# Altium footprint library KF250_3.5.PcbLib: 4 footprints
Each footprint in its own frame and in the unit in brackets; x right, y up, seen from the top. Pads: shape width x height; smd on the part's side, far side on the other; paste and mask are expansions set on the pad; w line width, h text height; cw(c..) or ccw(c..) is an arc to the next point about the centre after c.
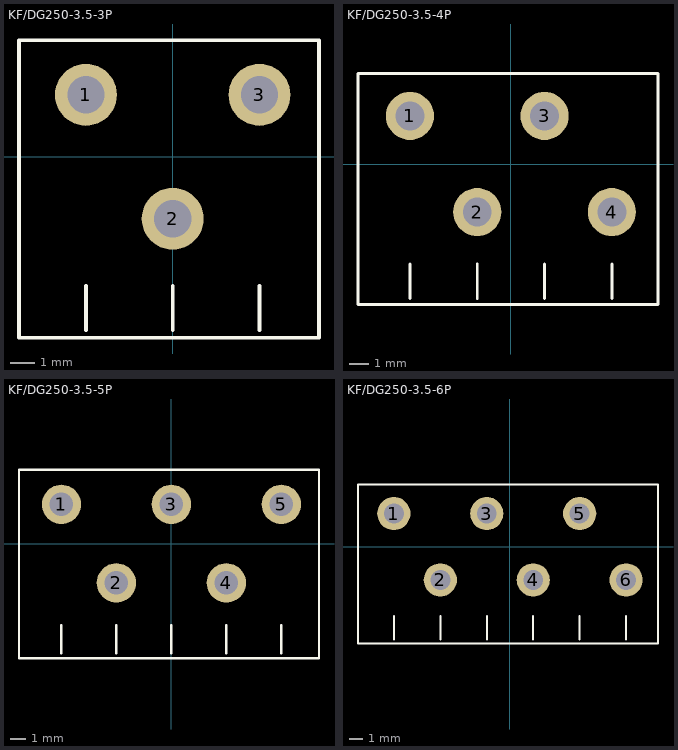
[diagram p0: the footprints below, top view; thin cyan lines are the x and y axes]

## KF/DG250-3.5-3P [mm]
pads (3):
  round 2.5 hole 1.5: 1(-3.5,2.5) 2(0,-2.5) 3(3.5,2.5)
Top Overlay:
  lines w0.15: -3.5,-6.984 -3.5,-5.206 ; 0,-6.984 0,-5.206 ; 3.5,-6.984 3.5,-5.206 ; -6.2,-7.3 5.9,-7.3 5.9,4.7 -6.2,4.7 -6.2,-7.3

## KF/DG250-3.5-4P [mm]
pads (4):
  round 2.5 hole 1.5: 1(-5.25,2.5) 2(-1.75,-2.5) 3(1.75,2.5) 4(5.25,-2.5)
Top Overlay:
  lines w0.15: -5.25,-6.984 -5.25,-5.206 ; -1.75,-6.984 -1.75,-5.206 ; 1.75,-6.984 1.75,-5.206 ; 5.25,-6.984 5.25,-5.206 ; -7.95,-7.3 -7.95,4.7 7.65,4.7 7.65,-7.3 -7.95,-7.3

## KF/DG250-3.5-5P [mm]
pads (5):
  round 2.5 hole 1.5: 1(-7,2.5) 2(-3.5,-2.5) 3(0,2.5) 4(3.5,-2.5) 5(7,2.5)
Top Overlay:
  lines w0.15: -7,-6.984 -7,-5.206 ; -3.5,-6.984 -3.5,-5.206 ; 0,-6.984 0,-5.206 ; 3.5,-6.984 3.5,-5.206 ; 7,-6.984 7,-5.206 ; -9.7,-7.3 9.4,-7.3 9.4,4.7 -9.7,4.7 -9.7,-7.3

## KF/DG250-3.5-6P [mm]
pads (6):
  round 2.5 hole 1.5: 1(-8.75,2.5) 2(-5.25,-2.5) 3(-1.75,2.5) 4(1.75,-2.5) 5(5.25,2.5) 6(8.75,-2.5)
Top Overlay:
  lines w0.15: -8.75,-6.984 -8.75,-5.206 ; -5.25,-6.984 -5.25,-5.206 ; -1.75,-6.984 -1.75,-5.206 ; 1.75,-6.984 1.75,-5.206 ; 5.25,-6.984 5.25,-5.206 ; 8.75,-6.984 8.75,-5.206 ; -11.45,-7.3 11.15,-7.3 11.15,4.7 -11.45,4.7 -11.45,-7.3